# Altium integrated library TE Connectivity 1-188275-0.IntLib: 1 symbol
Pins are listed as number, name and electrical type; pins without a type are passive.

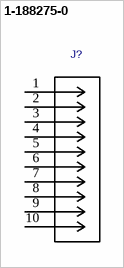
[diagram p0: symbol 1-188275-0]

## 1-188275-0
designator J?  (value not drawn)
MICRO-MATCH SMD FTE; C: Copyright (C) 2016 Accelerated Designs. All rights reserved; Value: Shrouded; Vendor: TE Connectivity; PITCH(MM): 0.05; POSITIONS: 10; Built_By: EMA_UL_Team; Copyright: Copyright (C) 2016 Accelerated Designs. All rights reserved; Manufacturer_Part_Number: 1-188275-0; TE Part Number: 1-188275-0; PRODUCT: Connector; ROWS/CONFIG: -
footprint CONN10_1-188275-
pins: 1, 2, 3, 4, 5, 6, 7, 8, 9, 10
2 alternate drawings of the same symbol